# Altium schematic symbol library Res_Vishay_CRCW0603127RFKEAHP_127Ohm.SchLib: 1 symbol
Pins are listed as number, name and electrical type; pins without a type are passive.

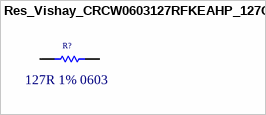
[diagram p0: symbol Res_Vishay_CRCW0603127RFKEAHP_127Ohm]

## Res_Vishay_CRCW0603127RFKEAHP_127Ohm
designator R?  Resistance: 127R 1% 0603  (hidden comment: Res_Vishay_CRCW0603127RFKEAHP_127Ohm)
RES SMD 127 OHM 1% 1/4W 0603; Supplier Part Number 1: 71-CRCW0603127RFKEAH; Supplier 1: Mouser
pins: 1, 2